# Altium footprint library SP3232EEN-L.PcbLib: 3 footprints
Each footprint in its own frame and in the unit in brackets; x right, y up, seen from the top. Pads: shape width x height; smd on the part's side, far side on the other; paste and mask are expansions set on the pad; w line width, h text height; cw(c..) or ccw(c..) is an arc to the next point about the centre after c.
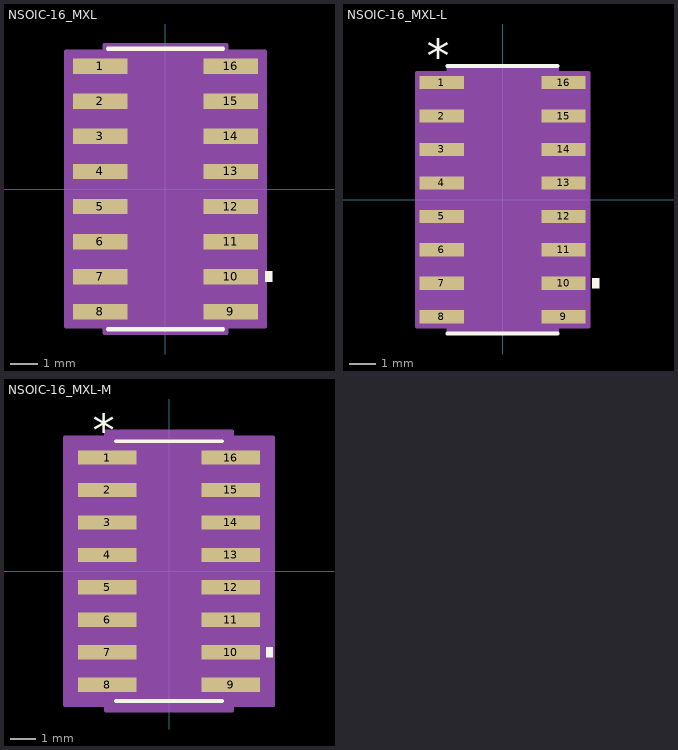
[diagram p0: the footprints below, top view; thin cyan lines are the x and y axes]

## NSOIC-16_MXL [mil]
pads (16):
  rect 78x22 smd paste+0 mask+0: 1(-93,175) 2(-93,125) 3(-93,75) 4(-93,25) 5(-93,-25) 6(-93,-75) 7(-93,-125) 8(-93,-175) 9(93,-175) 10(93,-125) 11(93,-75) 12(93,-25) 13(93,25) 14(93,75) 15(93,125) 16(93,175)
Top Overlay:
  region: 142,-117.5 152,-117.5 152,-132.5 142,-132.5
  lines w6: -82,-200 82,-200 ; -82,200 82,200
Mechanical 13:
  lines w0: -12,195 ccw(c0,195) 12,195
  lines w1: -118,-185 -77,-185 -77,-165 -118,-165 -118,-185 ; -118,-135 -77,-135 -77,-115 -118,-115 -118,-135 ; -118,-85 -77,-85 -77,-65 -118,-65 -118,-85 ; -118,-35 -77,-35 -77,-15 -118,-15 -118,-35 ; -118,15 -77,15 -77,35 -118,35 -118,15 ; -118,65 -77,65 -77,85 -118,85 -118,65 ; -118,115 -77,115 -77,135 -118,135 -118,115 ; -118,165 -77,165 -77,185 -118,185 -118,165 ; -77,-195 -77,195 77,195 77,-195 -77,-195 ; 77,-185 118,-185 118,-165 77,-165 77,-185 ; 77,-135 118,-135 118,-115 77,-115 77,-135 ; 77,-85 118,-85 118,-65 77,-65 77,-85 ; 77,-35 118,-35 118,-15 77,-15 77,-35 ; 77,15 118,15 118,35 77,35 77,15 ; 77,65 118,65 118,85 77,85 77,65 ; 77,115 118,115 118,135 77,135 77,115 ; 77,165 118,165 118,185 77,185 77,165
  text "*" at -74.5,142 h50
Mechanical 15:
  region: -87,-196 -142,-196 -142,196 -87,196 -87,205 87,205 87,196 142,196 142,-196 87,-196 87,-205 -87,-205
  lines w6: -142,-196 -87,-196 -87,-205 87,-205 87,-196 142,-196 142,196 87,196 87,205 -87,205 -87,196 -142,196 -142,-196
3D body "NSOIC-16_MXL.step": height 69.09, standoff 0, extent -117.99,-195 117.99,195

## NSOIC-16_MXL-L [mil]
pads (16):
  rect 66x20 smd paste+0 mask+0: 1(-91,175) 2(-91,125) 3(-91,75) 4(-91,25) 5(-91,-25) 6(-91,-75) 7(-91,-125) 8(-91,-175) 9(91,-175) 10(91,-125) 11(91,-75) 12(91,-25) 13(91,25) 14(91,75) 15(91,125) 16(91,175)
Top Overlay:
  region: 134,-117.5 144,-117.5 144,-132.5 134,-132.5
  lines w6: -82,-200 82,-200 ; -82,200 82,200
  text "*" at -113.5,190 h50
Mechanical 13:
  lines w0: -12,195 ccw(c0,195) 12,195
  lines w1: -118,-185 -118,-165 -77,-165 -77,-185 -118,-185 ; -118,-135 -118,-115 -77,-115 -77,-135 -118,-135 ; -118,-85 -118,-65 -77,-65 -77,-85 -118,-85 ; -118,-35 -118,-15 -77,-15 -77,-35 -118,-35 ; -118,15 -118,35 -77,35 -77,15 -118,15 ; -118,65 -118,85 -77,85 -77,65 -118,65 ; -118,115 -118,135 -77,135 -77,115 -118,115 ; -118,165 -118,185 -77,185 -77,165 -118,165 ; -77,-195 77,-195 77,195 -77,195 -77,-195 ; 77,-185 77,-165 118,-165 118,-185 77,-185 ; 77,-135 77,-115 118,-115 118,-135 77,-135 ; 77,-85 77,-65 118,-65 118,-85 77,-85 ; 77,-35 77,-15 118,-15 118,-35 77,-35 ; 77,15 77,35 118,35 118,15 77,15 ; 77,65 77,85 118,85 118,65 77,65 ; 77,115 77,135 118,135 118,115 77,115 ; 77,165 77,185 118,185 118,165 77,165
  text "*" at -74.5,142 h50
Mechanical 15:
  region: -81,-189 -128,-189 -128,189 -81,189 -81,199 81,199 81,189 128,189 128,-189 81,-189 81,-199 -81,-199
  lines w6: -128,-189 -128,189 -81,189 -81,199 81,199 81,189 128,189 128,-189 81,-189 81,-199 -81,-199 -81,-189 -128,-189
3D body "NSOIC-16_MXL.step": height 69.09, standoff 0, extent -117.99,-195 117.99,195

## NSOIC-16_MXL-M [mil]
pads (16):
  rect 90x22 smd paste+0 mask+0: 1(-95,175) 2(-95,125) 3(-95,75) 4(-95,25) 5(-95,-25) 6(-95,-75) 7(-95,-125) 8(-95,-175) 9(95,-175) 10(95,-125) 11(95,-75) 12(95,-25) 13(95,25) 14(95,75) 15(95,125) 16(95,175)
Top Overlay:
  region: 150,-117.5 160,-117.5 160,-132.5 150,-132.5
  lines w6: -82,-200 82,-200 ; -82,200 82,200
  text "*" at -117.5,192 h50
Mechanical 13:
  lines w0: -12,195 ccw(c0,195) 12,195
  lines w1: -118,-185 -118,-165 -77,-165 -77,-185 -118,-185 ; -118,-135 -118,-115 -77,-115 -77,-135 -118,-135 ; -118,-85 -118,-65 -77,-65 -77,-85 -118,-85 ; -118,-35 -118,-15 -77,-15 -77,-35 -118,-35 ; -118,15 -118,35 -77,35 -77,15 -118,15 ; -118,65 -118,85 -77,85 -77,65 -118,65 ; -118,115 -118,135 -77,135 -77,115 -118,115 ; -118,165 -118,185 -77,185 -77,165 -118,165 ; -77,-195 77,-195 77,195 -77,195 -77,-195 ; 77,-185 77,-165 118,-165 118,-185 77,-185 ; 77,-135 77,-115 118,-115 118,-135 77,-135 ; 77,-85 77,-65 118,-65 118,-85 77,-85 ; 77,-35 77,-15 118,-15 118,-35 77,-35 ; 77,15 77,35 118,35 118,15 77,15 ; 77,65 77,85 118,85 118,65 77,65 ; 77,115 77,135 118,135 118,115 77,115 ; 77,165 77,185 118,185 118,165 77,165
  text "*" at -74.5,142 h50
Mechanical 15:
  region: -97,-206 -160,-206 -160,206 -97,206 -97,215 97,215 97,206 160,206 160,-206 97,-206 97,-215 -97,-215
  lines w6: -160,-206 -160,206 -97,206 -97,215 97,215 97,206 160,206 160,-206 97,-206 97,-215 -97,-215 -97,-206 -160,-206
3D body "NSOIC-16_MXL.step": height 69.09, standoff 0, extent -117.99,-195 117.99,195